# Altium schematic symbol library TI_PCI_Lib.SchLib: 2 symbols
Pins are listed as number, name and electrical type; pins without a type are passive.

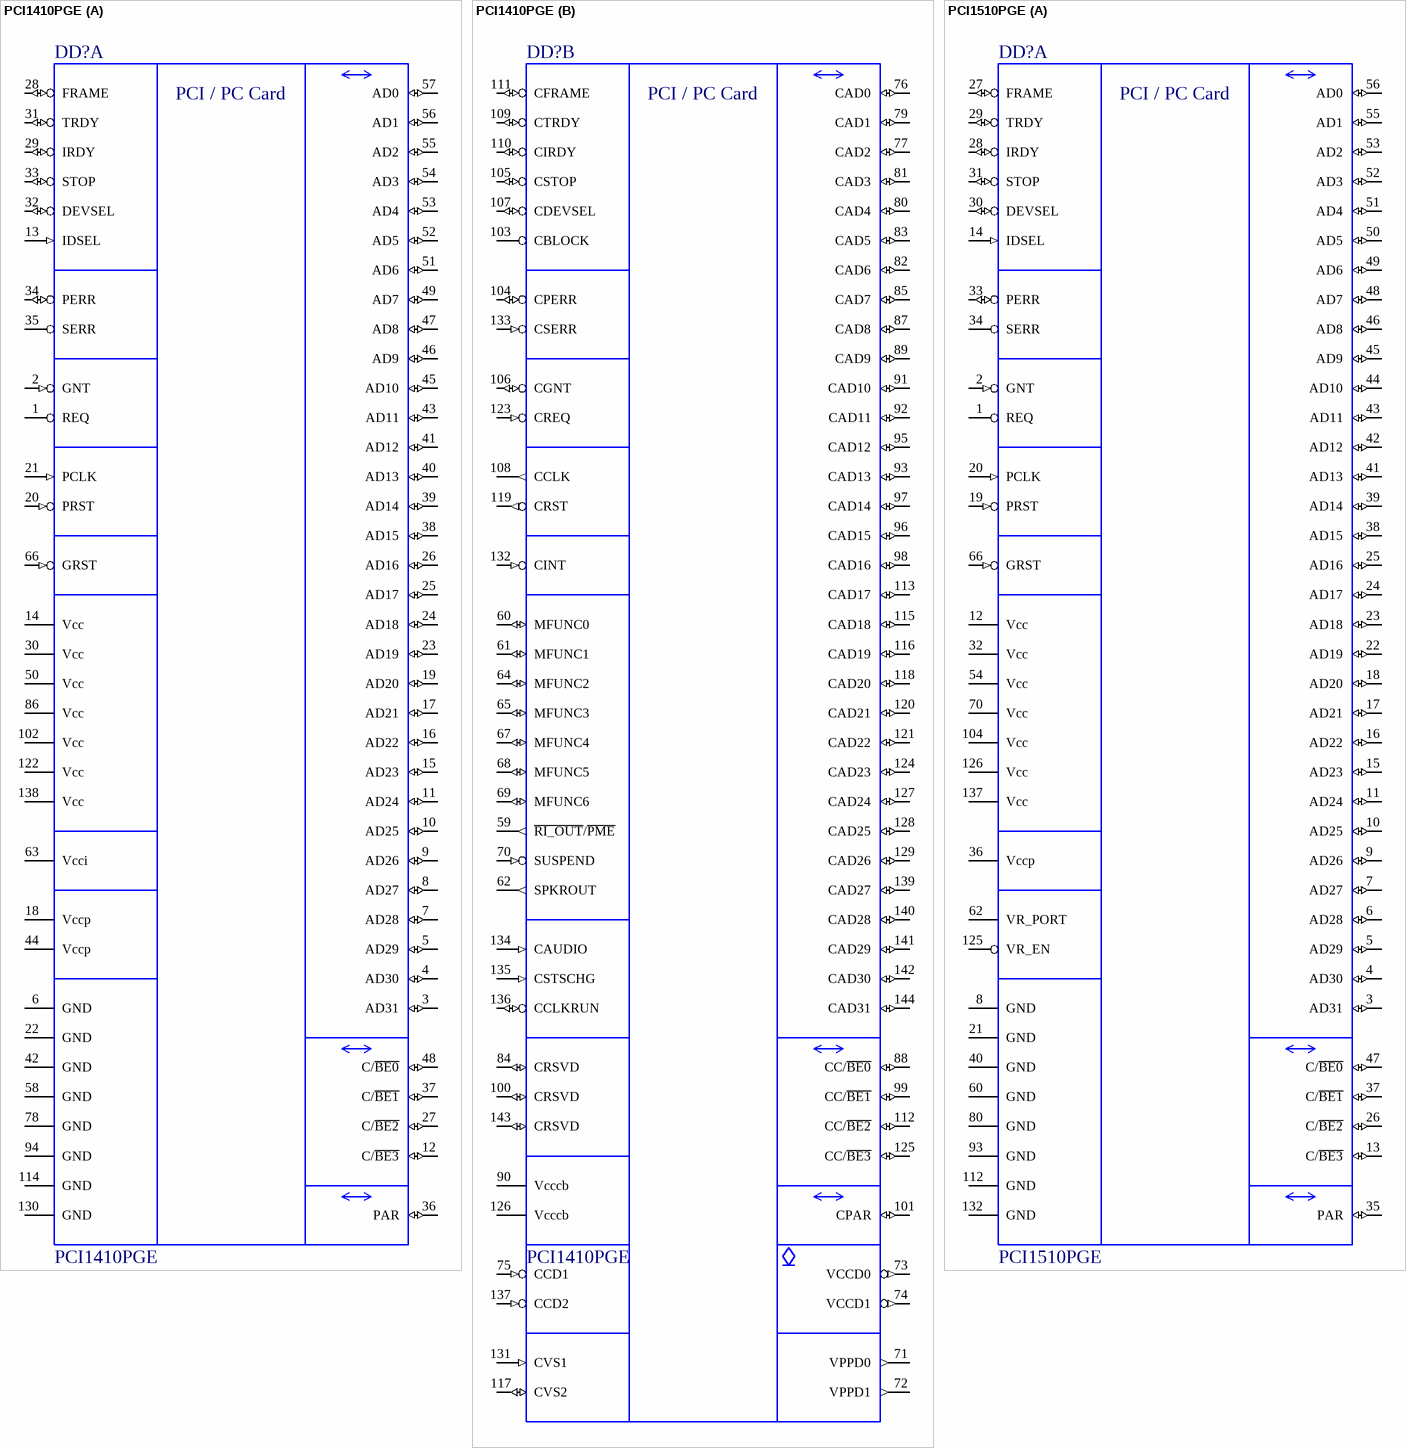
[diagram p0: symbols PCI1410PGE to PCI1510PGE]

## PCI1410PGE
designator DD?
Мост PCI-CardBus  PCI1410PGE
part A pins: 1 REQ (hiz) "REQ#", 2 GNT (in) "GNT#", 3 AD31 (io), 4 AD30 (io), 5 AD29 (io), 6 GND (power), 7 AD28 (io), 8 AD27 (io), 9 AD26 (io), 10 AD25 (io), 11 AD24 (io), 12 C/~{BE3} (io), 13 IDSEL (in), 14 Vcc (power), 15 AD23 (io), 16 AD22 (io), 17 AD21 (io), 18 Vccp (power), 19 AD20 (io), 20 PRST (in) "PRST#", 21 PCLK (in), 22 GND (power), 23 AD19 (io), 24 AD18 (io), 25 AD17 (io), 26 AD16 (io), 27 C/~{BE2} (io) "C/BE2#", 28 FRAME (io), 29 IRDY (io) "IRDY#", 30 Vcc (power), 31 TRDY (io) "TRDY#", 32 DEVSEL (io) "DEVSEL#", 33 STOP (io) "STOP#", 34 PERR (io) "PERR#", 35 SERR (oc) "SERR#", 36 PAR (io), 37 C/~{BE1} (io) "C\BE1#", 38 AD15 (io), 39 AD14 (io), 40 AD13 (io), 41 AD12 (io), 42 GND (power), 43 AD11 (io), 44 Vccp (power), 45 AD10 (io), 46 AD9 (io), 47 AD8 (io), 48 C/~{BE0} (io) "C/BE0#", 49 AD7 (io), 50 Vcc (power), 51 AD6 (io), 52 AD5 (io), 53 AD4 (io), 54 AD3 (io), 55 AD2 (io), 56 AD1 (io), 57 AD0 (io), 58 GND (power), 63 Vcci (power), 66 GRST (in) "GRST#", 78 GND (power), 86 Vcc (power), 94 GND (power), 102 Vcc (power), 114 GND (power), 122 Vcc (power), 130 GND (power), 138 Vcc (power)
part B pins: 59 ~{RI_OUT}/~{PME} (out) "RI_OUT#/PME#", 60 MFUNC0 (io), 61 MFUNC1 (io) "MFUNC0", 62 SPKROUT (out), 64 MFUNC2 (io) "MFUNC0", 65 MFUNC3 (io) "MFUNC0", 67 MFUNC4 (io) "MFUNC0", 68 MFUNC5 (io) "MFUNC0", 69 MFUNC6 (io) "MFUNC0", 70 SUSPEND (in) "SUSPEND#", 71 VPPD0 (out), 72 VPPD1 (out), 73 VCCD0 (out), 74 VCCD1 (out), 75 CCD1 (in) "CCD1#", 76 CAD0 (io), 77 CAD2 (io), 79 CAD1 (io) "CAD1/DATA4", 80 CAD4 (io) "CAD4/DATA12", 81 CAD3 (io) "CAD3/DATA5", 82 CAD6 (io) "CAD6/DATA13", 83 CAD5 (io) "CAD5/DATA6", 84 CRSVD (io) "CRSVD/DATA14", 85 CAD7 (io) "CAD7/DATA7", 87 CAD8 (io) "CAD8/DATA15", 88 CC/~{BE0} (io) "CC/BE0#/CE1#", 89 CAD9 (io) "CAD9/ADDR10", 90 Vcccb (power), 91 CAD10 (io) "CAD10/CE2#", 92 CAD11 (io) "CAD11/OE#", 93 CAD13 (io) "CAD13/IORD#", 95 CAD12 (io) "CAD12/ADDR11", 96 CAD15 (io) "CAD15/IOWR#", 97 CAD14 (io) "CAD14/ADDR9", 98 CAD16 (io) "CAD16/ADDR17", 99 CC/~{BE1} (io) "CC/BE1#/ADDR8", 100 CRSVD (io) "CRSVDADDR18", 101 CPAR (io) "CPAR/ADDR13", 103 CBLOCK (hiz) "CBLOCK#/ADDR19", 104 CPERR (io) "CPERR#/ADDR14", 105 CSTOP (io) "CSTOP#/ADDR20", 106 CGNT (io) "CGNT#/WE#", 107 CDEVSEL (io) "CDEVSEL#/ADDR21", 108 CCLK (out) "CCLK/ADDR16", 109 CTRDY (io) "CTRDY#/ADDR22", 110 CIRDY (io) "CIRDY#/ADDR15", 111 CFRAME (io) "CIRDY#/ADDR23", 112 CC/~{BE2} (io) "CC/BE2#/ADDR12", 113 CAD17 (io) "CAD17/ADDR24", 115 CAD18 (io) "CAD18/ADDR7", 116 CAD19 (io) "CAD19/ADDR25", 117 CVS2 (io) "CVS2/VS2#", 118 CAD20 (io) "CAD20/ADDR6", 119 CRST (out) "CRST#/RESET", 120 CAD21 (io) "CAD21/ADDR5", 121 CAD22 (io) "CAD21/ADDR5", 123 CREQ (in) "CREQ#/INPACK#", 124 CAD23 (io) "CAD23/ADDR3", 125 CC/~{BE3} (io) "CC/BE3#/REG#", 126 Vcccb (power), 127 CAD24 (io) "CAD24/ADDR2", 128 CAD25 (io) "CAD24/ADDR2", 129 CAD26 (io) "CAD24/ADDR2", 131 CVS1 (in) "CVS1/VS1#", 132 CINT (in) "CINT#/READY/IREQ#", 133 CSERR (in) "CSERR#/WAIT#", 134 CAUDIO (in) "CAUDIO/BVD/SPKR#", 135 CSTSCHG (in) "CSTSCHG/BVD2/STSCHG#/RI#", 136 CCLKRUN (io) "CCLKRUN#/WP/IOIS16#", 137 CCD2 (in) "CCD2/CD2", 139 CAD27 (io) "CAD27/DATA0", 140 CAD28 (io) "CAD27/DATA0", 141 CAD29 (io) "CAD27/DATA0", 142 CAD30 (io) "CAD27/DATA0", 143 CRSVD (io) "CRSVR/DATA2", 144 CAD31 (io) "CAD31/DATA10"
1 alternate drawing of the same symbol
part A text: PCI / PC Card
part B text: PCI / PC Card

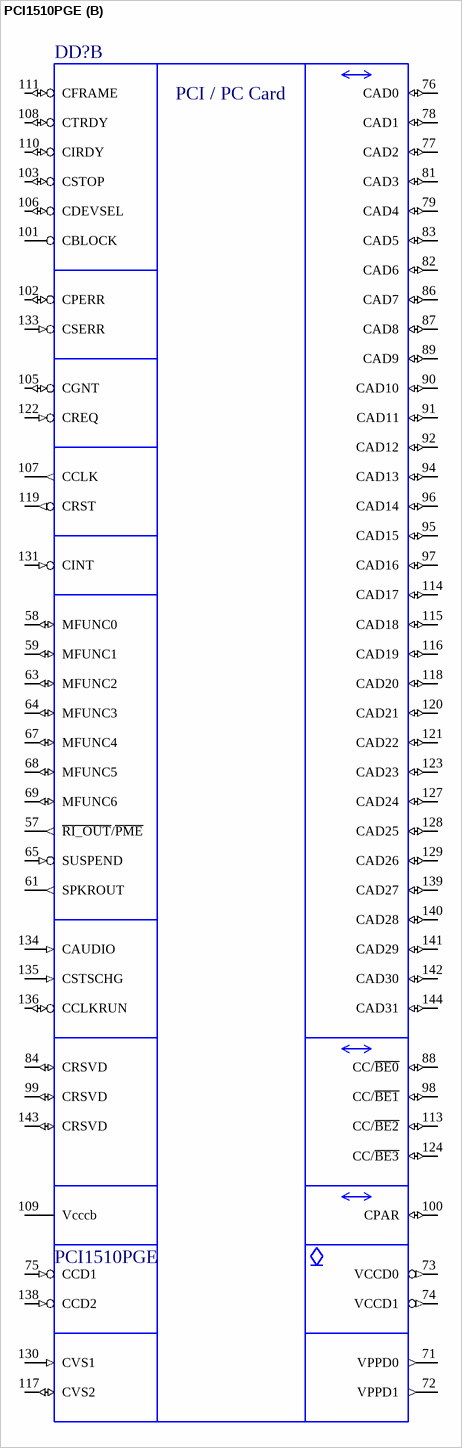
[diagram p1: symbol PCI1510PGE]

## PCI1510PGE
designator DD?
Мост PCI-CardBus  PCI1510PGE
part A pins: 1 REQ (hiz) "REQ#", 2 GNT (in) "GNT#", 3 AD31 (io), 4 AD30 (io), 5 AD29 (io), 6 AD28 (io), 7 AD27 (io), 8 GND (power), 9 AD26 (io), 10 AD25 (io), 11 AD24 (io), 12 Vcc (power), 13 C/~{BE3} (io), 14 IDSEL (in), 15 AD23 (io), 16 AD22 (io), 17 AD21 (io), 18 AD20 (io), 19 PRST (in) "PRST#", 20 PCLK (in), 21 GND (power), 22 AD19 (io), 23 AD18 (io), 24 AD17 (io), 25 AD16 (io), 26 C/~{BE2} (io) "C/BE2#", 27 FRAME (io), 28 IRDY (io) "IRDY#", 29 TRDY (io) "TRDY#", 30 DEVSEL (io) "DEVSEL#", 31 STOP (io) "STOP#", 32 Vcc (power), 33 PERR (io) "PERR#", 34 SERR (oc) "SERR#", 35 PAR (io), 36 Vccp (power), 37 C/~{BE1} (io) "C\BE1#", 38 AD15 (io), 39 AD14 (io), 40 GND (power), 41 AD13 (io), 42 AD12 (io), 43 AD11 (io), 44 AD10 (io), 45 AD9 (io), 46 AD8 (io), 47 C/~{BE0} (io) "C/BE0#", 48 AD7 (io), 49 AD6 (io), 50 AD5 (io), 51 AD4 (io), 52 AD3 (io), 53 AD2 (io), 54 Vcc (power), 55 AD1 (io), 56 AD0 (io), 60 GND (power), 62 VR_PORT (power), 66 GRST (in) "GRST#", 70 Vcc (power), 80 GND (power), 93 GND (power), 104 Vcc (power), 112 GND (power), 125 VR_EN "VR_EN#", 126 Vcc (power), 132 GND (power), 137 Vcc (power)
part B pins: 57 ~{RI_OUT}/~{PME} (out) "RI_OUT#/PME#", 58 MFUNC0 (io), 59 MFUNC1 (io) "MFUNC0", 61 SPKROUT (out), 63 MFUNC2 (io) "MFUNC0", 64 MFUNC3 (io) "MFUNC0", 65 SUSPEND (in) "SUSPEND#", 67 MFUNC4 (io) "MFUNC0", 68 MFUNC5 (io) "MFUNC0", 69 MFUNC6 (io) "MFUNC0", 71 VPPD0 (out), 72 VPPD1 (out), 73 VCCD0 (out), 74 VCCD1 (out), 75 CCD1 (in) "CCD1#", 76 CAD0 (io), 77 CAD2 (io), 78 CAD1 (io) "CAD1/DATA4", 79 CAD4 (io) "CAD4/DATA12", 81 CAD3 (io) "CAD3/DATA5", 82 CAD6 (io) "CAD6/DATA13", 83 CAD5 (io) "CAD5/DATA6", 84 CRSVD (io) "CRSVD/DATA14", 85 CLK_48_RSVD hidden "NC reserve for future-generation devices", 86 CAD7 (io) "CAD7/DATA7", 87 CAD8 (io) "CAD8/DATA15", 88 CC/~{BE0} (io) "CC/BE0#/CE1#", 89 CAD9 (io) "CAD9/ADDR10", 90 CAD10 (io) "CAD10/CE2#", 91 CAD11 (io) "CAD11/OE#", 92 CAD12 (io) "CAD12/ADDR11", 94 CAD13 (io) "CAD13/IORD#", 95 CAD15 (io) "CAD15/IOWR#", 96 CAD14 (io) "CAD14/ADDR9", 97 CAD16 (io) "CAD16/ADDR17", 98 CC/~{BE1} (io) "CC/BE1#/ADDR8", 99 CRSVD (io) "CRSVDADDR18", 100 CPAR (io) "CPAR/ADDR13", 101 CBLOCK (hiz) "CBLOCK#/ADDR19", 102 CPERR (io) "CPERR#/ADDR14", 103 CSTOP (io) "CSTOP#/ADDR20", 105 CGNT (io) "CGNT#/WE#", 106 CDEVSEL (io) "CDEVSEL#/ADDR21", 107 CCLK (out) "CCLK/ADDR16", 108 CTRDY (io) "CTRDY#/ADDR22", 109 Vcccb (power), 110 CIRDY (io) "CIRDY#/ADDR15", 111 CFRAME (io) "CIRDY#/ADDR23", 113 CC/~{BE2} (io) "CC/BE2#/ADDR12", 114 CAD17 (io) "CAD17/ADDR24", 115 CAD18 (io) "CAD18/ADDR7", 116 CAD19 (io) "CAD19/ADDR25", 117 CVS2 (io) "CVS2/VS2#", 118 CAD20 (io) "CAD20/ADDR6", 119 CRST (out) "CRST#/RESET", 120 CAD21 (io) "CAD21/ADDR5", 121 CAD22 (io) "CAD21/ADDR5", 122 CREQ (in) "CREQ#/INPACK#", 123 CAD23 (io) "CAD23/ADDR3", 124 CC/~{BE3} (io) "CC/BE3#/REG#", 127 CAD24 (io) "CAD24/ADDR2", 128 CAD25 (io) "CAD24/ADDR2", 129 CAD26 (io) "CAD24/ADDR2", 130 CVS1 (in) "CVS1/VS1#", 131 CINT (in) "CINT#/READY/IREQ#", 133 CSERR (in) "CSERR#/WAIT#", 134 CAUDIO (in) "CAUDIO/BVD/SPKR#", 135 CSTSCHG (in) "CSTSCHG/BVD2/STSCHG#/RI#", 136 CCLKRUN (io) "CCLKRUN#/WP/IOIS16#", 138 CCD2 (in) "CCD2/CD2", 139 CAD27 (io) "CAD27/DATA0", 140 CAD28 (io) "CAD27/DATA0", 141 CAD29 (io) "CAD27/DATA0", 142 CAD30 (io) "CAD27/DATA0", 143 CRSVD (io) "CRSVR/DATA2", 144 CAD31 (io) "CAD31/DATA10"
1 alternate drawing of the same symbol
part A text: PCI / PC Card
part B text: PCI / PC Card